# EAGLE library part ER-OLED013-1 (library ER-OLED013-1)
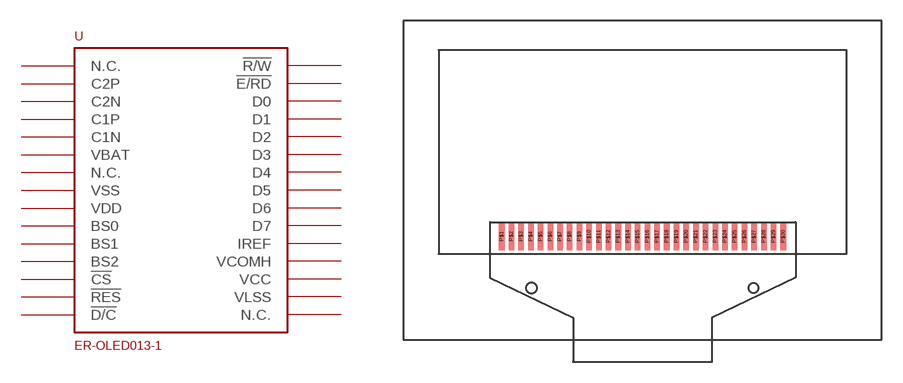
[diagram p0: symbol with the pads of ER-OLED013-1; footprint ER-OLED013-1]

Designator prefix -

## ER-OLED013-1  [ER-OLED013-1]
P$1  N.C.
P$2  C2P
P$3  C2N
P$4  C1P
P$5  C1N
P$6  VBAT
P$7  N.C.
P$8  VSS
P$9  VDD
P$10  BS0
P$11  BS1
P$12  BS2
P$13  !CS
P$14  !RES
P$15  !D/C
P$16  !R/W
P$17  !E/RD
P$18  D0
P$19  D1
P$20  D2
P$21  D3
P$22  D4
P$23  D5
P$24  D6
P$25  D7
P$26  IREF
P$27  VCOMH
P$28  VCC
P$29  VLSS
P$30  N.C.

## Footprint ER-OLED013-1 (pad centres in mm)
smd 0.4 x 2: P$1 -10.15,7.45; P$2 -9.45,7.45; P$3 -8.75,7.45; P$4 -8.05,7.45; P$5 -7.35,7.45; P$6 -6.65,7.45; P$7 -5.95,7.45; P$8 -5.25,7.45; P$9 -4.55,7.45; P$10 -3.85,7.45; P$11 -3.15,7.45; P$12 -2.45,7.45; P$13 -1.75,7.45; P$14 -1.05,7.45; P$15 -0.35,7.45; P$16 0.35,7.45; P$17 1.05,7.45; P$18 1.75,7.45; P$19 2.45,7.45; P$20 3.15,7.45; P$21 3.85,7.45; P$22 4.55,7.45; P$23 5.25,7.45; P$24 5.95,7.45; P$25 6.65,7.45; P$26 7.35,7.45; P$27 8.05,7.45; P$28 8.75,7.45; P$29 9.45,7.45; P$30 10.15,7.45